# EAGLE library part PRT-14322 (library proj_biblioteka)
SparkFun Accessories Photon Stackable Header- 12 Pin Source: Datasheet <https://cdn.sparkfun.com/datasheets/Prototyping/SP-140520-XX-001.pdf>
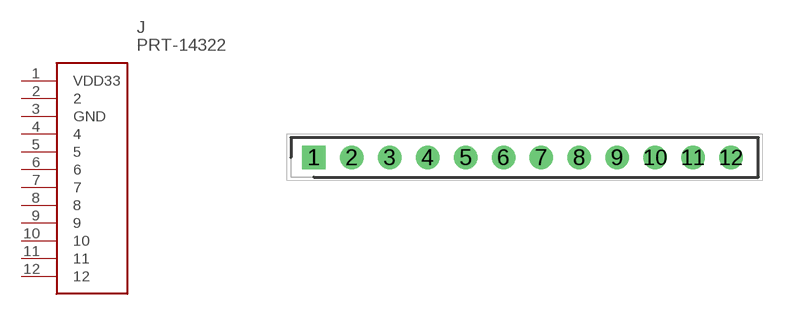
[diagram p0: symbol with the pads of RHDR12W87P0X254_1X12_3103X250X; footprint RHDR12W87P0X254_1X12_3103X250X]

Designator prefix J

## PRT-14322 (DESCRIPTION: SparkFun Accessories Photon Stackable Header- 12 Pin; HEIGHT: 8.65mm; MANUFACTURER_NAME: SparkFun; MANUFACTURER_PART_NUMBER: PRT-14322; MOUSER_PART_NUMBER: 474-PRT-14322; MOUSER_PRICE-STOCK: https://www.mouser.co.uk/ProductDetail/SparkFun/PRT-14322?qs=YCa%2FAAYMW006l9RrtPHkxQ%3D%3D)  [RHDR12W87P0X254_1X12_3103X250X]
1  VDD33
2  2
3  GND
4  4
5  5
6  6
7  7
8  8
9  9
10  10
11  11
12  12

## Footprint RHDR12W87P0X254_1X12_3103X250X (pad centres in mm)
PRT-14322
drill 1.05 pad 1.575 square: 1 -12.7,0
drill 1.05 pad 1.575: 2 -10.16,0; 3 -7.62,0; 4 -5.08,0; 5 -2.54,0; 6 0,0; 7 2.54,0; 8 5.08,0; 9 7.62,0; 10 10.16,0; 11 12.7,0; 12 15.24,0